# EAGLE library part STC3100 (library STC3100)
The STC3100 monitors the critical parameters of a single-cell Li-Ion battery (voltage, temperature and current) and includes hardware functions to implement a gas gauge for battery charge monitoring, based on a programmable 12- to 14-bit A/D converter. With a typical 30 milliOhms external sense resistor, the battery current can be up to 2.5 A and the accumulator system provides a capacity up to +/-7000 mAh with a resolution of 0.2 mAh. The device is programmable through the I2C interface.
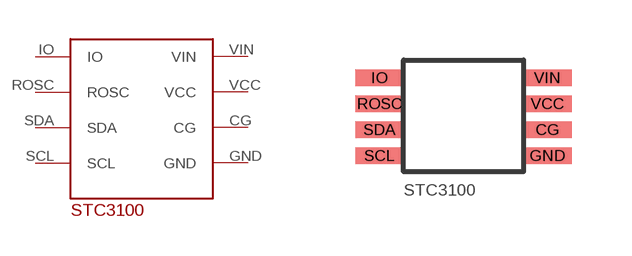
[diagram p0: symbol with the pads of STC3100; footprint STC3100]

Designator prefix -

## STC3100  [STC3100]
CG  CG
GND  GND
IO  IO
ROSC  ROSC
SCL  SCL
SDA  SDA
VCC  VCC
VIN  VIN

## Footprint STC3100 (pad centres in mm)
smd 1.213 x 0.406: CG 4.1,0.65; GND 4.1,0; IO -0.1,1.95; ROSC -0.1,1.3; SCL -0.1,0; SDA -0.1,0.65; VCC 4.1,1.3; VIN 4.1,1.95